# Altium footprint library Passive.PcbLib: 87 footprints (part 6 of 6)
Each footprint in its own frame and in the unit in brackets; x right, y up, seen from the top. Pads: shape width x height; smd on the part's side, far side on the other; paste and mask are expansions set on the pad; w line width, h text height; cw(c..) or ccw(c..) is an arc to the next point about the centre after c.
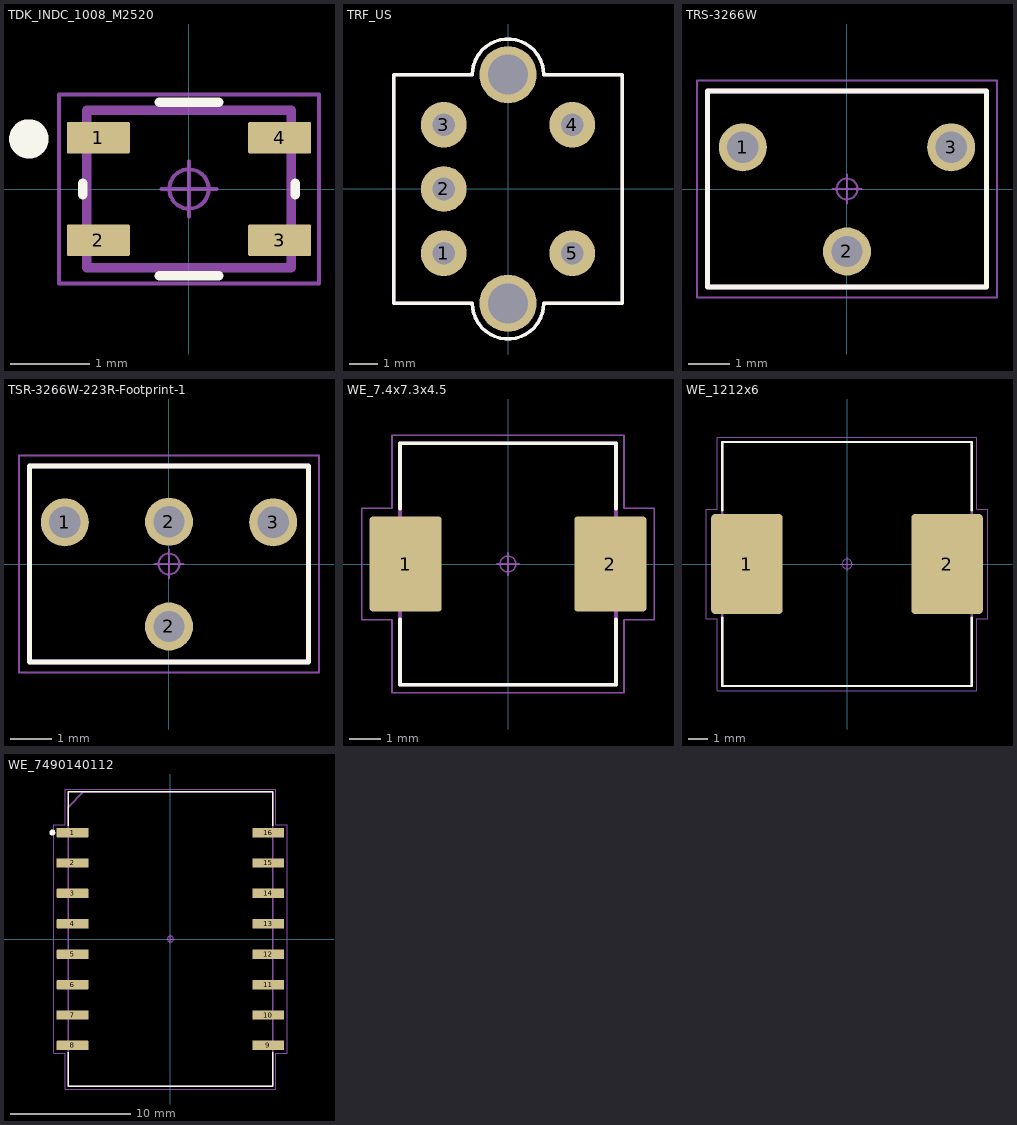
[diagram p5: the footprints below, top view; thin cyan lines are the x and y axes]

## TDK_INDC_1008_M2520 [mm]
pads (4):
  rrect10% 0.8x0.4 smd: 1(-1.15,0.65) 2(-1.15,-0.65) 3(1.15,-0.65) 4(1.15,0.65)
Top Overlay:
  circle w0.25: c-2.032,0.635 r0.125
  lines w0.12: -1.35,-0.075 -1.35,0.075 ; -0.375,-1.1 0.375,-1.1 ; -0.375,1.1 0.375,1.1 ; 1.35,-0.075 1.35,0.075
Mechanical 11:
  circle w0.05: c0,0 r0.25
  lines w0.05: -0.35,0 0.35,0 ; 0,-0.35 0,0.35 ; -1.65,-1.2 -1.65,1.2 1.65,1.2 1.65,-1.2 -1.65,-1.2
  text ".Designator" at -2.253,-0.226 h1
Mechanical 15:
  lines w0.12: -1.3,-1 1.3,-1 1.3,1 -1.3,1 -1.3,-1
3D body "Ind_TDK_ACM2520-102-2P-T002_eec.STEP": height 1.3, standoff 0, extent -1.25,-1 1.25,1

## TRF_US [mm] "Transformator for ultrasonic sensor. No part number, no case, no manufacture."
pads (7):
  round 1.6 hole 0.8: 1(-2.25,-2.25) 2(-2.25,0) 3(-2.25,2.25) 4(2.25,2.25) 5(2.25,-2.25)
  round 2 hole 1.4: ""(0,-4) ""(0,4)
Top Overlay:
  lines w0.12: -4,-4 -4,4 -1.25,4 cw(c0,4) 1.25,4 4,4 4,-4 1.25,-4 cw(c0,-4) -1.25,-4 -4,-4
Mechanical 11:
  lines w0.12: -4,-4 -4,4 -1.25,4 cw(c0,4) 1.25,4 4,4 4,-4 1.25,-4 cw(c0,-4) -1.25,-4 -4,-4
Mechanical 15:
  lines w0.05: -4,-4 -4,4 -1.25,4 cw(c0,4) 1.25,4 4,4 4,-4 1.25,-4 cw(c0,-4) -1.25,-4 -4,-4

## TRS-3266W [mm] "Потенциометр."
pads (3):
  round 1.15 hole 0.75 paste-2539.97: 1(-2.5,1) 2(0,-1.5) 3(2.5,1)
Top Overlay:
  lines w0.12: -3.35,-2.35 3.35,-2.35 3.35,2.35 -3.35,2.35 -3.35,-2.35
Mechanical 11:
  lines w0.12: -3.35,-2.35 -3.35,2.35 3.35,2.35 3.35,-2.35 -3.35,-2.35
  text ".Designator" at -2.253,-0.226 h1
Mechanical 15:
  circle w0.05: c0,0 r0.25
  lines w0.05: -0.35,0 0.35,0 ; 0,-0.35 0,0.35 ; -3.6,-2.6 3.6,-2.6 3.6,2.6 -3.6,2.6 -3.6,-2.6
3D body "RESRR500W50L670T470H720.STEP": height 7.2, standoff -2, extent -3.35,-2.35 3.35,2.35

## TSR-3266W-223R-Footprint-1 [mm]
pads (4):
  round 1.15 hole 0.75 paste-2539.97: 1(-2.5,1) 2(0,1.016) 2(0,-1.5) 3(2.5,1)
Top Overlay:
  lines w0.12: -3.35,-2.35 3.35,-2.35 3.35,2.35 -3.35,2.35 -3.35,-2.35
Mechanical 11:
  lines w0.12: -3.35,-2.35 -3.35,2.35 3.35,2.35 3.35,-2.35 -3.35,-2.35
  text ".Designator" at -2.253,-0.226 h1
Mechanical 15:
  circle w0.05: c0,0 r0.25
  lines w0.05: -0.35,0 0.35,0 ; 0,-0.35 0,0.35 ; -3.6,-2.6 3.6,-2.6 3.6,2.6 -3.6,2.6 -3.6,-2.6
3D body "RESRR500W50L670T470H720.STEP": height 7.2, standoff -2, extent -3.35,-2.35 3.35,2.35

## WE_7.4x7.3x4.5 [mm] "Inductor, Molded Body; 7.40 mm L X 7.30 mm W X 4.50 mm H body"
pads (2):
  rrect10% 2.27x3 smd: 1(-3.22,0) 2(3.22,0)
Top Overlay:
  lines w0.12: -3.4,-1.74 -3.4,-3.8 3.4,-3.8 3.4,-1.75 ; -3.4,1.75 -3.4,3.8 3.4,3.8 3.4,1.75
Mechanical 11:
  lines w0.12: -3.4,-3.8 3.4,-3.8 3.4,3.8 -3.4,3.8 -3.4,-3.8
  text ".Designator" at -4.506,-0.452 h2
Mechanical 15:
  circle w0.05: c0,0 r0.25
  lines w0.05: -0.35,0 0.35,0 ; 0,-0.35 0,0.35 ; -4.605,-1.75 -3.65,-1.75 -3.65,-4.05 3.65,-4.05 3.65,-1.75 4.605,-1.75 4.605,1.75 3.65,1.75 3.65,4.05 -3.65,4.05 -3.65,1.75 -4.605,1.75 -4.605,-1.75
3D body "Download_WE-PD_7345P_STP (rev1).stp": height 4.22, standoff 0, extent -3.65,-3.651 3.65,3.651

## WE_1212x6 [mm] "Inductor, Molded Body; 12.80 mm L X 12.00 mm W X 6.00 mm H body"
pads (2):
  rrect10% 3.66x5.12 smd: 1(-5.125,0) 2(5.125,0)
Top Overlay:
  lines w0.12: -6.4,-2.74 -6.4,-6.25 6.4,-6.25 6.4,-2.74 ; -6.4,2.74 -6.4,6.25 6.4,6.25 6.4,2.74
Mechanical 2:
  circle w0.05: c0,0 r0.25
  lines w0.05: -0.35,0 0.35,0 ; 0,-0.35 0,0.35 ; -7.205,-2.81 -6.65,-2.81 -6.65,-6.5 6.65,-6.5 6.65,-2.81 7.205,-2.81 7.205,2.81 6.65,2.81 6.65,6.5 -6.65,6.5 -6.65,2.81 -7.205,2.81 -7.205,-2.81
Mechanical 4:
  lines w0.12: -6.4,-6.25 6.4,-6.25 6.4,6.25 -6.4,6.25 -6.4,-6.25
  text ".Designator" at -6.759,-0.678 h3
3D body "744771001.stp": height 5.98, standoff -0.02, extent -6,-6 6,6

## WE_7490140112 [mm] "SMD-16, 2.54 mm pitch; 16 pin, 24.50 mm L X 17.00 mm W X 10.85 mm H body"
pads (16):
  rrect10% 2.65x0.79 smd: 1(-8.175,8.89) 2(-8.175,6.35) 3(-8.175,3.81) 4(-8.175,1.27) 5(-8.175,-1.27) 6(-8.175,-3.81) 7(-8.175,-6.35) 8(-8.175,-8.89) 9(8.175,-8.89) 10(8.175,-6.35) 11(8.175,-3.81) 12(8.175,-1.27) 13(8.175,1.27) 14(8.175,3.81) 15(8.175,6.35) 16(8.175,8.89)
Top Overlay:
  circle w0.25: c-9.87,8.89 r0.125
  lines w0.12: -8.55,-9.465 -8.55,-12.28 8.55,-12.28 8.55,-9.465 ; -8.55,9.465 -8.55,12.28 8.55,12.28 8.55,9.465
Mechanical 11:
  lines w0.12: -8.55,-12.28 8.55,-12.28 8.55,12.28 -7.28,12.28 -8.55,11.01 -8.55,-12.28
  text ".Designator" at -6.759,-0.678 h3
Mechanical 15:
  circle w0.05: c0,0 r0.25
  lines w0.05: -0.35,0 0.35,0 ; 0,-0.35 0,0.35 ; -9.75,-9.535 -8.8,-9.535 -8.8,-12.53 8.8,-12.53 8.8,-9.535 9.75,-9.535 9.75,9.535 8.8,9.535 8.8,12.53 -8.8,12.53 -8.8,9.535 -9.75,9.535 -9.75,-9.535
3D body "WE_7490140112.STEP": height 10.85, standoff 0, extent -9.125,-12.275 9.125,12.275